# EAGLE library part THROUHOLE06 (library pinhead-half-pitch)
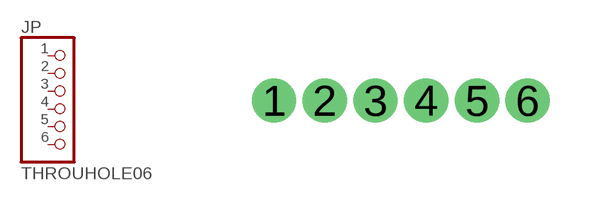
[diagram p3: symbol with the pads of THROUHOLE06; footprint THROUHOLE06]

Designator prefix JP

## THROUHOLE06  [THROUHOLE06]
1  1  pas
2  2  pas
3  3  pas
4  4  pas
5  5  pas
6  6  pas

## Footprint THROUHOLE06 (pad centres in mm)
drill 0.6: 1 -3.175,0; 2 -1.905,0; 3 -0.635,0; 4 0.635,0; 5 1.905,0; 6 3.175,0